# Altium schematic symbol library MY.SCHLIB: 1 symbol
Pins are listed as number, name and electrical type; pins without a type are passive.

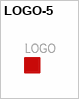
[diagram p0: symbol LOGO-5]

## LOGO-5
designator LOGO?  GateName_1: LOGO
DeviceSetName: LOGO-5; SymbolName_1: LOGO; LibraryName: MY; Package: LOGO
footprint LOGO